# Altium footprint library 0.PCB1.PcbLib: 27 footprints (part 3 of 3)
Each footprint in its own frame and in the unit in brackets; x right, y up, seen from the top. Pads: shape width x height; smd on the part's side, far side on the other; paste and mask are expansions set on the pad; w line width, h text height; cw(c..) or ccw(c..) is an arc to the next point about the centre after c.
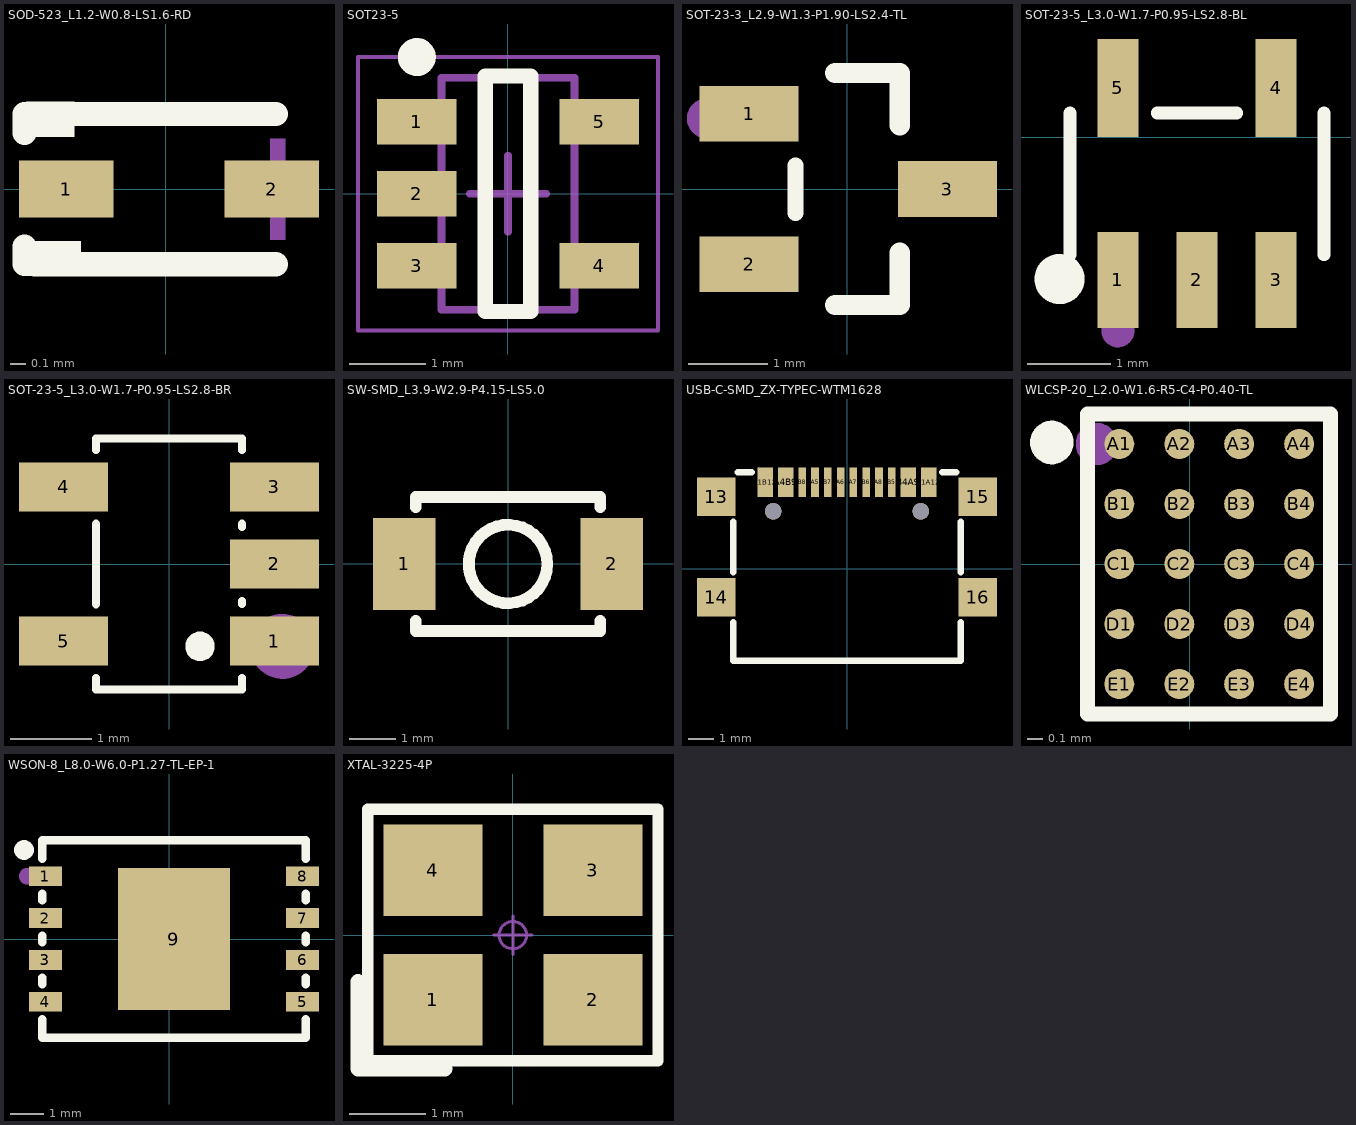
[diagram p2: the footprints below, top view; thin cyan lines are the x and y axes]

## SOD-523_L1.2-W0.8-LS1.6-RD [mm]
pads (2):
  rect 0.6x0.36 smd paste+0 mask+0.051: 1(-0.63,0) 2(0.67,0)
Top Overlay:
  region: -0.539,-0.552 -0.539,-0.332 -0.844,-0.332 -0.844,-0.552
  region: -0.58,0.552 -0.58,0.332 -0.885,0.332 -0.885,0.552
  lines w0.152: -0.894,-0.363 -0.894,-0.476 -0.656,-0.476 ; -0.894,0.356 -0.894,0.476 -0.656,0.476 0.696,0.476 ; -0.656,-0.476 0.696,-0.476
Mechanical 15:
  region: 0.756,0.32 0.756,-0.32 0.66,-0.32 0.66,0.32
  region: 0.9,0.048 0.9,-0.048 0.516,-0.048 0.516,0.048
  region: -0.867,0.055 -0.867,-0.041 -0.483,-0.041 -0.483,0.055

## SOT23-5 [mm]
height 1.1
pads (5):
  rect 1.05x0.6 smd: 1(-1.2,0.95) 2(-1.2,0) 3(-1.2,-0.95) 4(1.2,-0.95) 5(1.2,0.95)
Top Overlay:
  circle w0.25: c-1.2,1.8 r0.125
  lines w0.2: -0.3,-1.55 0.3,-1.55 0.3,1.55 -0.3,1.55 -0.3,-1.55
Mechanical 13:
  lines w0.1: -0.875,-1.525 0.875,-1.525 0.875,1.525 -0.875,1.525 -0.875,-1.525
Mechanical 15:
  lines w0.05: -1.975,-1.8 -1.975,1.8 1.975,1.8 1.975,-1.8 -1.975,-1.8
  lines w0.1: -0.5,0 0.5,0 ; 0,-0.5 0,0.5
3D body "SOT23-5.STEP": height 1.15, standoff -0.03, extent -1.403,-1.5 1.403,1.5

## SOT-23-3_L2.9-W1.3-P1.90-LS2.4-TL [mm]
pads (3):
  rect 1.25x0.7 smd paste+0 mask+0.051: 1(-1.235,0.95) 2(-1.235,-0.95) 3(1.265,0)
Top Overlay:
  lines w0.2: -0.648,-0.303 -0.648,0.297
  lines w0.254: -0.15,-1.46 0.665,-1.46 ; -0.15,1.46 0.665,1.46 0.665,0.8 ; 0.665,-1.46 0.665,-0.8 ; 0.665,-1.46 0.665,-0.8 ; 0.665,-1.46 0.665,-0.8
Mechanical 15:
  circle w0.254: c-1.763,0.889 r0.127

## SOT-23-5_L3.0-W1.7-P0.95-LS2.8-BL [mm]
pads (5):
  rect 0.49x1.157 smd paste+0 mask+0.051: 1(1.679,-1.712) 2(2.629,-1.712) 3(3.579,-1.712)
  rect 0.49x1.175 smd paste+0 mask+0.051: 4(3.579,0.595) 5(1.679,0.595)
Top Overlay:
  circle w0.3: c0.978,-1.701 r0.15
  lines w0.152: 1.103,-1.41 1.103,0.293 ; 2.152,0.293 3.105,0.293 ; 4.155,-1.41 4.155,0.293
Mechanical 15:
  circle w0.2: c1.679,-2.321 r0.1

## SOT-23-5_L3.0-W1.7-P0.95-LS2.8-BR [mm]
pads (5):
  rect 1.1x0.6 smd paste+0 mask+0.051: 1(1.3,-0.95) 2(1.3,0) 3(1.3,0.95) 4(-1.3,0.95) 5(-1.3,-0.95)
Top Overlay:
  region: 0.204,-1.016 0.204,-0.98 0.23,-0.915 0.28,-0.864 0.346,-0.837 0.417,-0.837 0.482,-0.864 0.532,-0.915 0.559,-0.98 0.558,-1.016 0.559,-1.051 0.532,-1.117 0.482,-1.168 0.417,-1.195 0.346,-1.195 0.28,-1.168 0.23,-1.117 0.204,-1.051 0.204,-1.016
  lines w0.1: -0.9,-1.404 -0.9,-1.55 0.9,-1.55 0.9,-1.404 ; -0.9,-0.496 -0.9,0.496 ; -0.9,1.404 -0.9,1.55 0.9,1.55 0.9,1.404 ; 0.9,-0.496 0.9,-0.454 ; 0.9,0.454 0.9,0.496
Mechanical 15:
  circle w0.4: c1.397,-1.016 r0.2

## SW-SMD_L3.9-W2.9-P4.15-LS5.0 [mm]
pads (2):
  rect 1.35x2 smd paste+0 mask+0.051: 1(-2.25,0) 2(2.25,0)
Top Overlay:
  circle w0.254: c0,0 r0.85
  lines w0.254: -2,-1.231 -2,-1.45 2,-1.45 2,-1.231 ; -2,1.231 -2,1.45 2,1.45 2,1.231

## USB-C-SMD_ZX-TYPEC-WTM1628 [mm]
pads (18):
  rect 1.5x1.5 smd paste+0 mask+0.051: 13(-5.12,2.817) 14(-5.12,-1.113) 15(5.12,2.817) 16(5.12,-1.113)
  rect 0.6x1.15 smd paste+0 mask+0.051: A1B12(-3.2,3.392) A4B9(-2.4,3.392) B1A12(3.2,3.392) B4A9(2.4,3.392)
  rect 0.3x1.15 smd paste+0 mask+0.051: A5(-1.25,3.392) A6(-0.25,3.392) A7(0.25,3.392) A8(1.25,3.392) B5(1.75,3.392) B6(0.75,3.392) B7(-0.75,3.392) B8(-1.75,3.392)
  round 0.65 hole 0.65 unplated paste+0: ""(-2.89,2.249) ""(2.89,2.249)
Top Overlay:
  lines w0.254: -4.445,-2.094 -4.445,-3.593 4.455,-3.593 4.455,-2.094 ; -4.445,-0.132 -4.445,1.836 ; -4.268,3.773 -3.731,3.773 ; 3.731,3.773 4.268,3.773 ; 4.455,-0.132 4.455,1.836

## WLCSP-20_L2.0-W1.6-R5-C4-P0.40-TL [mm]
pads (20):
  round 0.2 smd paste-100 mask+0.05: A1(-0.47,0.8) A2(-0.07,0.8) A3(0.33,0.8) A4(0.73,0.8) B1(-0.47,0.4) B2(-0.07,0.4) B3(0.33,0.4) B4(0.73,0.4) C1(-0.47,0) C2(-0.07,0) C3(0.33,0) C4(0.73,0) D1(-0.47,-0.4) D2(-0.07,-0.4) D3(0.33,-0.4) D4(0.73,-0.4) E1(-0.47,-0.8) E2(-0.07,-0.8) E3(0.33,-0.8) E4(0.73,-0.8)
Top Overlay:
  circle w0.15: c-0.92,0.81 r0.07
  lines w0.1: -0.674,-1 -0.68,-1 ; -0.674,1 -0.68,1 ; 0.934,-1 0.94,-1 ; 0.934,1 0.94,1 ; -0.68,-1 -0.68,1 ; -0.68,-1 0.94,-1 ; -0.68,1 0.94,1 ; 0.94,-1 0.94,1
Top Paste:
  drawing of 20 lines, arcs and shapes, not listed
Mechanical 15:
  circle w0.14: c-0.62,0.8 r0.07

## WSON-8_L8.0-W6.0-P1.27-TL-EP-1 [mm]
pads (9):
  rect 1x0.6 smd paste+0 mask+0.05: 1(-3.75,1.905) 2(-3.75,0.635) 3(-3.75,-0.635) 4(-3.75,-1.905) 5(4.05,-1.905) 6(4.05,-0.635) 7(4.05,0.635) 8(4.05,1.905)
  rect 3.4x4.3 smd paste+0 mask+0.05: 9(0.15,0)
Top Overlay:
  circle w0.3: c-4.4,2.7 r0.15
  lines w0.254: -3.85,-2.436 -3.85,-3 4.15,-3 4.15,-2.436 ; -3.85,-1.374 -3.85,-1.166 ; -3.85,-0.104 -3.85,0.104 ; -3.85,1.166 -3.85,1.374 ; -3.85,2.436 -3.85,3 4.1,3 ; 4.15,-1.374 4.15,-1.166 ; 4.15,-0.104 4.15,0.104 ; 4.15,1.166 4.15,1.374 ; 4.15,2.436 4.15,3
Mechanical 15:
  circle w0.254: c-4.295,1.905 r0.127

## XTAL-3225-4P [mm]
pads (4):
  rect 1.3x1.2 smd: 1(-1.05,-0.85) 2(1.05,-0.85) 3(1.05,0.85) 4(-1.05,0.85)
Top Overlay:
  lines w0.15: -1.905,-1.651 -1.905,1.651 1.905,1.651 1.905,-1.651 -1.905,-1.651
  lines w0.2: -2.032,-1.753 -0.889,-1.753 ; -2.032,-1.727 -2.032,-0.61
Mechanical 15:
  circle w0.04: c0,0 r0.18
  lines w0.04: -0.254,0 0.254,0 ; 0,-0.254 0,0.254
3D body "OSC_3225-4.STEP": height 0.7, standoff -0.02, extent -1.6,-1.25 1.6,1.25